# Altium schematic symbol library Modules.SchLib: 1 symbol
Pins are listed as number, name and electrical type; pins without a type are passive.

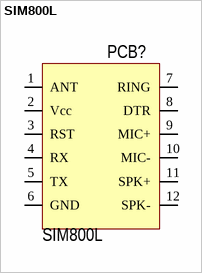
[diagram p0: symbol SIM800L]

## SIM800L
designator PCB?
footprint SIM800L
pins: 1 ANT, 2 Vcc, 3 RST, 4 RX, 5 TX, 6 GND, 7 RING, 8 DTR, 9 MIC+, 10 MIC-, 11 SPK+, 12 SPK-